# Altium schematic symbol library Misc.SchLib: 4 symbols
Pins are listed as number, name and electrical type; pins without a type are passive.

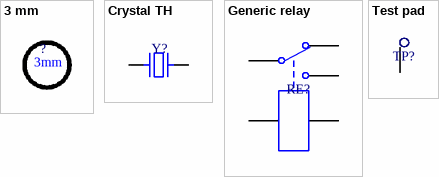
[diagram p0: symbols 3 mm to Test pad]

## 3 mm
designator ?, comment Screw  (value not drawn)
footprint TEST PAD
text: 3mm

## Crystal TH
designator Y?, comment Crystal  (value not drawn)
footprint Crystal TH (Quartz Crystal, Thru-Hole; 2 Leads; Body 11.35 x 4.65 x 13.46 mm (LxWxH max))
pins: 1, 2

## Generic relay
designator RE?, comment General  (value not drawn)
Relay 24V
footprint Relay (Relay 24V)
pins: 0 (power), 1 (power), 2, 3, 4

## Test pad
designator TP?, comment Name  (value not drawn)
footprint TEST PAD
footprint TEST PAD TH
footprint TEST PAD TH
pins: 1 TP